# Altium schematic symbol library ZLG7290.SCHLIB: 1 symbol
Pins are listed as number, name and electrical type; pins without a type are passive.

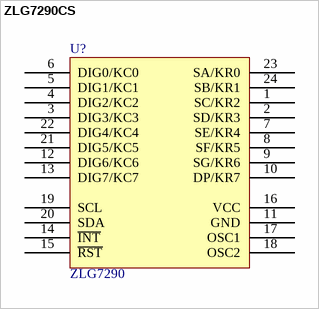
[diagram p0: symbol ZLG7290CS]

## ZLG7290CS
designator U?, comment ZLG7290
Keypad controller
footprint ZLG7290CS
pins: 1 SC/KR2, 2 SD/KR3, 3 DIG3/KC3, 4 DIG2/KC2, 5 DIG1/KC1, 6 DIG0/KC0, 7 SE/KR4, 8 SF/KR5, 9 SG/KR6, 10 DP/KR7, 11 GND, 12 DIG6/KC6, 13 DIG7/KC7, 14 ~{INT}, 15 ~{RST}, 16 VCC, 17 OSC1, 18 OSC2, 19 SCL, 20 SDA, 21 DIG5/KC5, 22 DIG4/KC4, 23 SA/KR0, 24 SB/KR1
2 alternate drawings of the same symbol